# EAGLE library part BC68 (library Quectel)
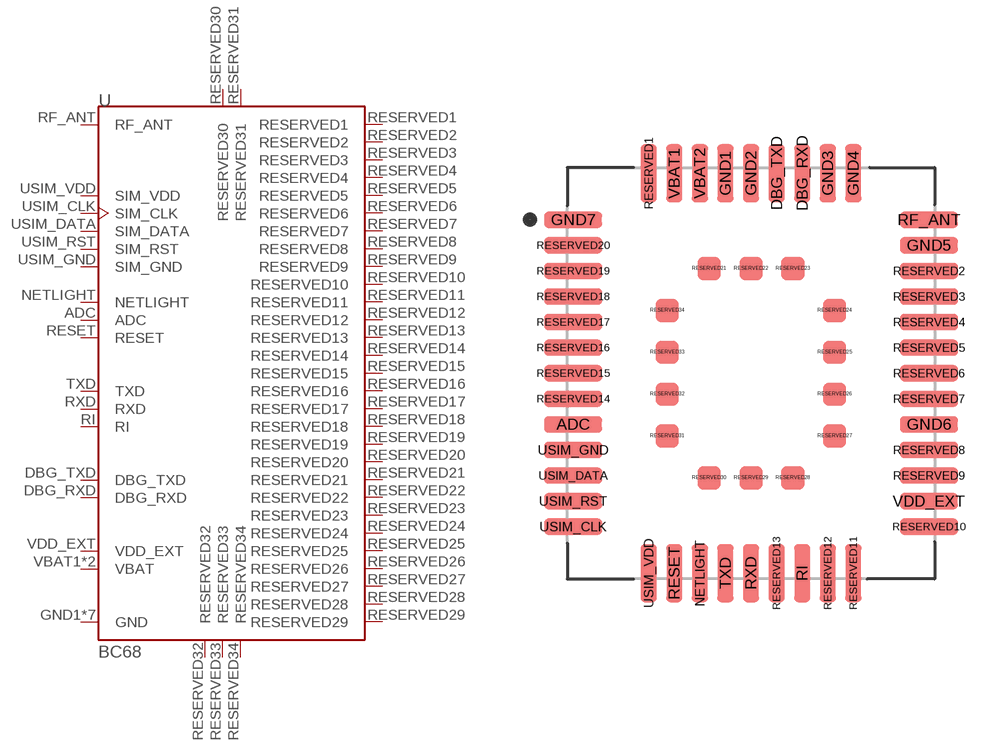
[diagram p3: symbol with the pads of BC68; footprint BC68]

Designator prefix -

## BC68  [BC68]
ADC  ADC  in
DBG_RXD  DBG_RXD  in
DBG_TXD  DBG_TXD  out
GND1  GND  pwr
GND2  GND  pwr
GND3  GND  pwr
GND4  GND  pwr
GND5  GND  pwr
GND6  GND  pwr
GND7  GND  pwr
NETLIGHT  NETLIGHT  out
RESERVED1  RESERVED1  out
RESERVED2  RESERVED2  out
RESERVED3  RESERVED3  out
RESERVED4  RESERVED4  out
RESERVED5  RESERVED5  out
RESERVED6  RESERVED6  out
RESERVED7  RESERVED7  out
RESERVED8  RESERVED8  out
RESERVED9  RESERVED9  out
RESERVED10  RESERVED10  out
RESERVED11  RESERVED11  out
RESERVED12  RESERVED12  out
RESERVED13  RESERVED13  out
RESERVED14  RESERVED14  out
RESERVED15  RESERVED15  out
RESERVED16  RESERVED16  out
RESERVED17  RESERVED17  out
RESERVED18  RESERVED18  out
RESERVED19  RESERVED19  out
RESERVED20  RESERVED20  out
RESERVED21  RESERVED21  out
RESERVED22  RESERVED22  out
RESERVED23  RESERVED23  out
RESERVED24  RESERVED24  out
RESERVED25  RESERVED25  out
RESERVED26  RESERVED26  out
RESERVED27  RESERVED27  out
RESERVED28  RESERVED28  out
RESERVED29  RESERVED29  out
RESERVED30  RESERVED30  out
RESERVED31  RESERVED31  out
RESERVED32  RESERVED32  out
RESERVED33  RESERVED33  out
RESERVED34  RESERVED34  out
RESET  RESET  out
RF_ANT  RF_ANT
RI  RI  out
RXD  RXD  in
TXD  TXD  out
USIM_CLK  SIM_CLK  out
USIM_DATA  SIM_DATA
USIM_GND  SIM_GND  pwr
USIM_RST  SIM_RST  out
USIM_VDD  SIM_VDD  pwr
VBAT1  VBAT  pwr
VBAT2  VBAT  pwr
VDD_EXT  VDD_EXT  pwr

## Footprint BC68 (pad centres in mm)
smd 2.5 x 0.7: ADC 1.24,6.69; GND5 16.54,14.39; GND6 16.54,6.69; GND7 1.24,15.49; RESERVED2 16.54,13.29; RESERVED3 16.54,12.19; RESERVED4 16.54,11.09; RESERVED5 16.54,9.99; RESERVED6 16.54,8.89; RESERVED7 16.54,7.79; RESERVED8 16.54,5.59; RESERVED9 16.54,4.49; RESERVED10 16.54,2.29; RESERVED14 1.24,7.79; RESERVED15 1.24,8.89; RESERVED16 1.24,9.99; RESERVED17 1.24,11.09; RESERVED18 1.24,12.19; RESERVED19 1.24,13.29; RESERVED20 1.24,14.39; RF_ANT 16.54,15.49; USIM_CLK 1.24,2.29; USIM_DATA 1.24,4.49; USIM_GND 1.24,5.59; USIM_RST 1.24,3.39; VDD_EXT 16.54,3.39
smd 0.7 x 2.5: DBG_RXD 11.09,17.49; DBG_TXD 9.99,17.49; GND1 7.79,17.49; GND2 8.89,17.49; GND3 12.19,17.49; GND4 13.29,17.49; NETLIGHT 6.69,0.29; RESERVED1 4.49,17.49; RESERVED11 13.29,0.29; RESERVED12 12.19,0.29; RESERVED13 9.99,0.29; RESET 5.59,0.29; RI 11.09,0.29; RXD 8.89,0.29; TXD 7.79,0.29; USIM_VDD 4.49,0.29; VBAT1 5.59,17.49; VBAT2 6.69,17.49
smd 1 x 1: RESERVED21 7.09,13.39; RESERVED22 8.89,13.39; RESERVED23 10.69,13.39; RESERVED24 12.49,11.59; RESERVED25 12.49,9.79; RESERVED26 12.49,7.99; RESERVED27 12.49,6.19; RESERVED28 10.69,4.39; RESERVED29 8.89,4.39; RESERVED30 7.09,4.39; RESERVED31 5.29,6.19; RESERVED32 5.29,7.99; RESERVED33 5.29,9.79; RESERVED34 5.29,11.59